# EAGLE library part KA2284 (library musical-plant)
5-Dot Dual Level Meter Driver
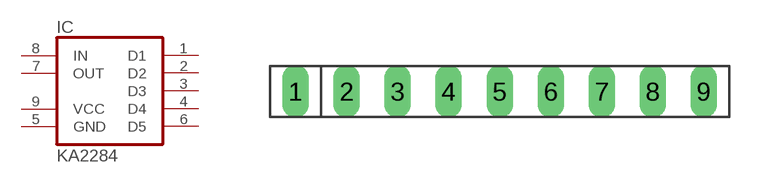
[diagram p0: symbol with the pads of SIP-9; footprint SIP-9]

Designator prefix IC

## KA2284  [SIP-9]
1  D1  out
2  D2  out
3  D3  out
4  D4  out
5  GND  in
6  D5  in
7  OUT  in
8  IN  in
9  VCC  in

## Footprint SIP-9 (pad centres in mm)
drill 0.813 long: 1 -10.16,0; 2 -7.62,0; 3 -5.08,0; 4 -2.54,0; 5 0,0; 6 2.54,0; 7 5.08,0; 8 7.62,0; 9 10.16,0